# EAGLE library part CEM3320 (library analog-audio-chips)
Voltage Controlled Filter capable of 4th order LP, BP or HP designed by famous audio chips designer Curtis Electronics.
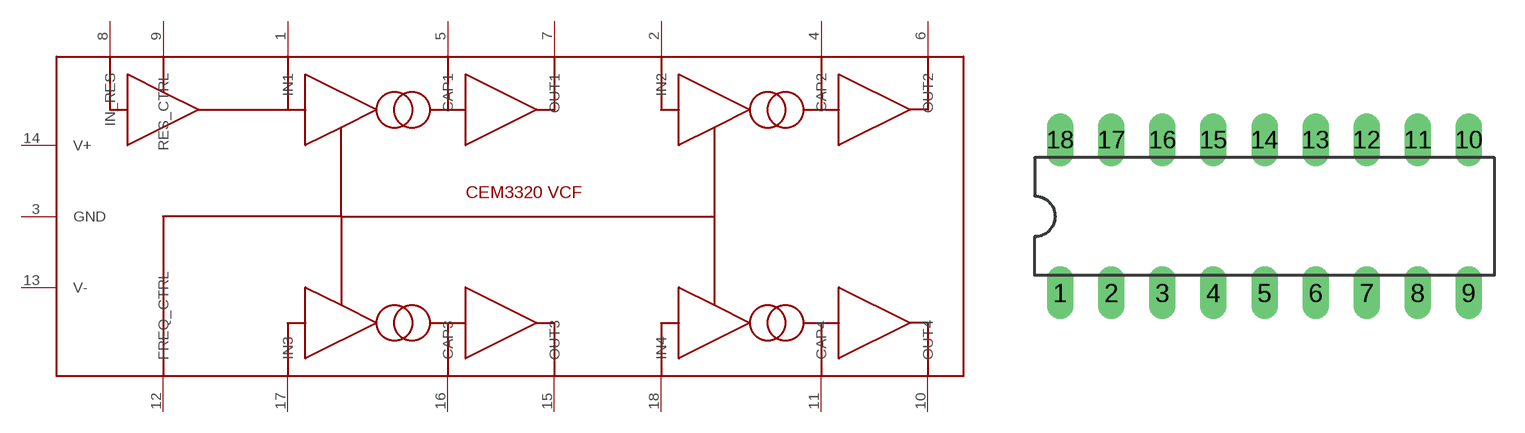
[diagram p0: symbol with the pads of DIL18; footprint DIL18]

Designator prefix -

## CEM3320  [DIL18]
1  IN1
2  IN2
3  GND
4  CAP2
5  CAP1
6  OUT2
7  OUT1
8  IN_RES
9  RES_CTRL
10  OUT4
11  CAP4
12  FREQ_CTRL
13  V-
14  V+
15  OUT3
16  CAP3
17  IN3
18  IN4

## Footprint DIL18 (pad centres in mm)
Dual In Line Package
drill 0.813 long: 1 -10.16,-3.81; 2 -7.62,-3.81; 3 -5.08,-3.81; 4 -2.54,-3.81; 5 0,-3.81; 6 2.54,-3.81; 7 5.08,-3.81; 8 7.62,-3.81; 9 10.16,-3.81; 10 10.16,3.81; 11 7.62,3.81; 12 5.08,3.81; 13 2.54,3.81; 14 0,3.81; 15 -2.54,3.81; 16 -5.08,3.81; 17 -7.62,3.81; 18 -10.16,3.81